# Altium integrated library maix_2.IntLib: 21 symbols
Pins are listed as number, name and electrical type; pins without a type are passive.

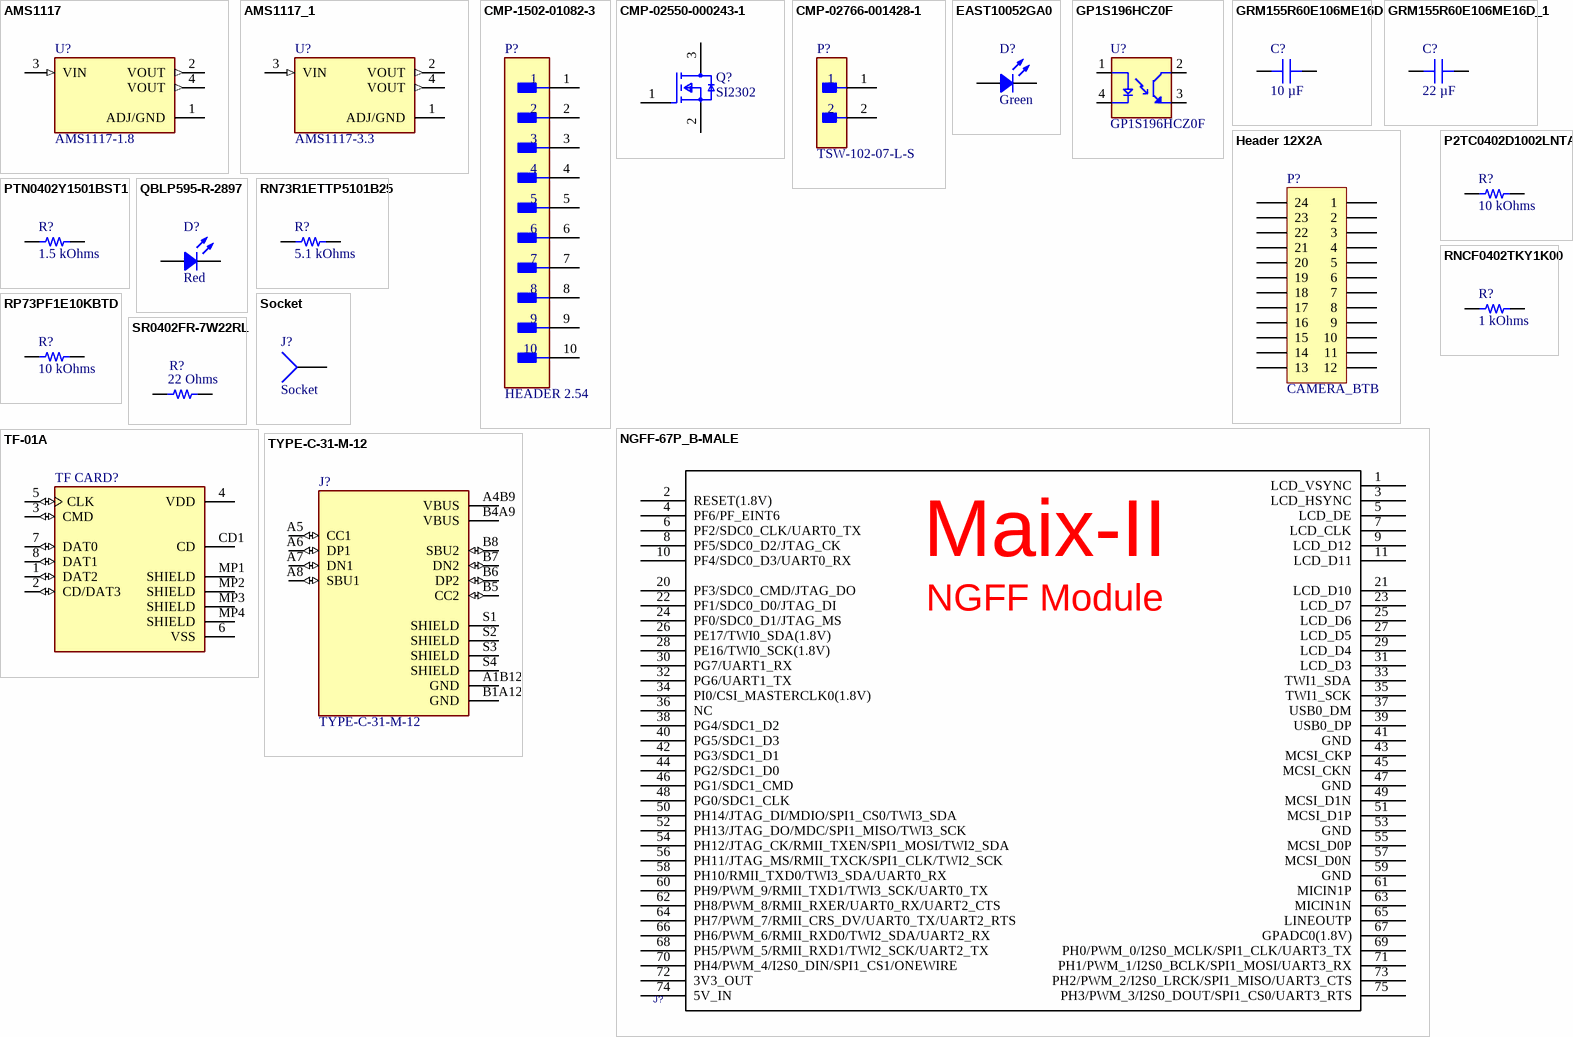
[diagram p0: symbols AMS1117 to TYPE-C-31-M-12]

## AMS1117
designator U?, comment AMS1117-1.8
Sot223/Pkg 1-Amp 5-Volt Low Drop Out Voltage Regulatator; MF: {'manufacturer': u'Advanced Monolithic Systems'}; Availability: Unavailable; Price: None; Value: *; MP: AMS1117; Package: None
footprint SOT229P700X180-4N
pins: 1 ADJ/GND (power), 2 VOUT (out), 3 VIN (in), 4 VOUT (out)

## AMS1117_1
designator U?, comment AMS1117-3.3
Sot223/Pkg 1-Amp 5-Volt Low Drop Out Voltage Regulatator; MF: {'manufacturer': u'Advanced Monolithic Systems'}; Availability: Unavailable; Price: None; Value: *; MP: AMS1117; Package: None
footprint SOT229P700X180-4N
pins: 1 ADJ/GND (power), 2 VOUT (out), 3 VIN (in), 4 VOUT (out)

## CMP-1502-01082-3
designator P?, comment HEADER 2.54
CONN HEADER VERT 10POS 2.54MM; Manufacturer: Wurth Electronics; Manufacturer Part Number: 61301011121; Gender: Male; Insulation Resistance: 1GR; Number of Contacts: 10; Current Rating: 3A; Voltage Rating: 250V; Contact Mating Length: 0.236inch; Termination: Solder; Insulation Material: Nylon; Fastening Type: Pull; RoHS Compliant: Yes; Height: 11.54mm; Contact Plating: Gold; Series: WR-PHD; Length: 2.54mm; Mount: Through Hole; Contact Shape: Square; Package Quantity: 1000; Contact Gender: Male; Housing Material: PBT; Color: Black; Orientation: Straight; Number of Rows: 1; Connector Type: Header; Contact Type: Male Pin; Insulation Color: Black; Width: 25.4mm; Min Operating Temperature: -40°C; Contact Material: Copper Alloy; Number of Positions: 10; Contact Finish - Mating: GOLD; Pitch: 2.54mm; Flammability Rating: UL94 V-0; Max Operating Temperature: 105°C; Packaging: Bulk
footprint FP-61301011121-MFG
pins: 1, 2, 3, 4, 5, 6, 7, 8, 9, 10

## CMP-02550-000243-1
designator Q?, comment SI2302
MOSFET N-CH 20V 2.9A SOT23-3; Manufacturer: Vishay Siliconix; Manufacturer Part Number: SI2302DDS-T1-GE3; Max Power Dissipation: 710mW; Number of Channels: 1; Turn-On Delay Time: 8ns; Rise Time: 7ns; Continuous Drain Current (ID): 2.6A; Drain to Source Resistance: 57mR; Gate to Source Voltage (Vgs): 8V; Turn-Off Delay Time: 30ns; RoHS Compliant: Yes; Drain to Source Voltage (Vdss): 20V; Case/Package: SOT-23; Lead Free: Lead Free; Weight: 0.050717oz; REACH SVHC: No SVHC; Max Operating Temperature: 150°C; Number of Elements: 1; Fall Time: 7ns; Packaging: Tape and Reel; Package Quantity: 3000; Number of Pins: 3; Power Dissipation: 710mW; Mount: Surface Mount; Min Operating Temperature: -55°C
footprint FP-S-03946-IPC_B
footprint FP-S-03946-IPC_C
footprint FP-S-03946-IPC_A
footprint FP-S-03946-MFG
pins: 1 G, 2 S, 3 D

## CMP-02766-001428-1
designator P?, comment TSW-102-07-L-S
CONN HEADER VERT 2POS 2.54MM; Manufacturer: Samtec; Voltage Rating: 550V; Current Rating: 7.6A; Gender: Male; Number of Contacts: 2; Connector Type: Male Pin; Radiation Hardening: No; Orientation: Straight; Contact Plating: Gold; Max Operating Temperature: 125°C; Mount: Through Hole; Package Quantity: 1; Number of Rows: 1; Housing Material: Polyester; RoHS Compliant: Yes; Length: 5.08mm; Max Voltage Rating (AC): 550V; Pitch: 2.54mm; Packaging: Bulk; Depth: 2.54mm; Termination: Solder; Min Operating Temperature: -55°C; Housing Color: Black; Lead Free: Lead Free; Color: Black; Number of Positions: 2; Width: 2.54mm; Max Current Rating: 7.6A; REACH SVHC: No SVHC; Contact Material: Bronze; Contact Mating Length: 0.23inch; Series: TSW; Contact Type: Male Pin; Manufacturer Part Number: TSW-102-07-L-S
footprint FP-TSW-102-07-L-S-MFG
pins: 1, 2

## EAST10052GA0
designator D?, comment Green
LED GREEN CLEAR 2SMD; Part Number: EAST10052GA0; Manufacturer: Everlight Electronics Co Ltd; Configuration: Standard; Current - Test: 5mA; Lens Color: Colorless; Lens Size: 1.00mm x 0.50mm; Lens Style: Rectangle with Flat Top; Viewing Angle: 120°; Voltage - Forward (Vf) (Typ): 2.95V; Wavelength - Peak: 518nm; Color: Green; ComponentLink1Description: Datasheet; ComponentLink1URL: https://everlightamericas.com/index.php?controller=attachment&id_attachment=3256; ComponentLink2Description: DigiKey Link; ComponentLink2URL: https://www.digikey.com/en/products/detail/everlight-electronics-co-ltd/EAST10052GA0/8510366; Device Package: 0402 (1005 Metric); Height (Max): 0.25mm; LastUpdated: 2022/9/14 8:36:15; Lens Transparency: Clear; Lifecycle Status: Active; Minimum Order: 1; Mounting Type: Surface Mount; Package / Case: 0402 (1005 Metric); Packaging: TapeAndReel; PartId: 696; Part Status: Active; Price: 0.06; Series: -; Size / Dimension: 1.00mm L x 0.50mm W; Supplier 1: DigiKey; Supplier Part Number 1: 1080-1557-1-ND; Supplier Device Package: 2-SMD; Value: Green
footprint LED 0402_1005 GREEN
pins: 1, 2

## GP1S196HCZ0F
designator U?
Optical Sensor Through-Beam 0.043 (1.1mm) Phototransistor PCB Mount; MF: Sharp Microelectronics; Availability: Warning; Value: *; Check_prices: https://www.snapeda.com/parts/GP1S196HCZ0F/Sharp%20Microelectronics/view-part/2699849/?ref=eda; Package: PCB Mount Sharp; SnapEDA_Link: https://www.snapeda.com/parts/GP1S196HCZ0F/Sharp%20Microelectronics/view-part/2699849/?ref=snap; Price: None; MP: GP1S196HCZ0F; Purchase-URL: https://pricing.snapeda.com/search/part/GP1S196HCZ0F/?ref=eda
footprint OPTO_GP1S196HCZ0F
footprint SMD-4_L3.1-W2.0-P1.3-BR
pins: 1 A, 2 CT, 3 ET, 4 C

## GRM155R60E106ME16D
designator C?, comment 10 µF
CAP CER 10UF 2.5V X5R 0402; Part Number: GRM155R60E106ME16D; manufacturer: Murata Electronics; Tolerance: ±20%; Value: 10 µF; Applications: General Purpose; Capacitance: 10 µF; componentlink1description: Datasheet; componentlink1url: https://search.murata.co.jp/Ceramy/image/img/A01X/G101/ENG/GRM155R60E106ME16-01.pdf; componentlink2description: DigiKey Link; componentlink2url: https://www.digikey.com/en/products/detail/murata-electronics/GRM155R60E106ME16D/4905100; Device Package: 0402 (1005 Metric); lastupdated: 2022/9/14 7:46:00; Lifecycle Status: Active; Minimum Order: 1; Mounting Type: Surface Mount, MLCC; Operating Temperature: -55°C ~ 85°C; Package / Case: 0402 (1005 Metric); packaging: TapeAndReel; partid: 6704; Part Status: Active; price: 0.02; series: GRM; Size / Dimension: 0.039" L x 0.020" W (1.00mm x 0.50mm); Supplier 1: DigiKey; Supplier Part Number 1: 490-10692-1-ND; Temperature Coefficient: X5R; Thickness (Max): 0.028" (0.70mm); Voltage - Rated: 2.5V
footprint CAP 0402_1005
pins: 1, 2

## GRM155R60E106ME16D_1
designator C?, comment 22 µF
CAP CER 10UF 2.5V X5R 0402; Part Number: GRM155R60E106ME16D; manufacturer: Murata Electronics; Capacitance: 10 µF; Tolerance: ±20%; Value: 22 µF; Applications: General Purpose; componentlink1description: Datasheet; componentlink1url: https://search.murata.co.jp/Ceramy/image/img/A01X/G101/ENG/GRM155R60E106ME16-01.pdf; componentlink2description: DigiKey Link; componentlink2url: https://www.digikey.com/en/products/detail/murata-electronics/GRM155R60E106ME16D/4905100; Device Package: 0402 (1005 Metric); lastupdated: 2022/9/14 7:46:00; Lifecycle Status: Active; Minimum Order: 1; Mounting Type: Surface Mount, MLCC; Operating Temperature: -55°C ~ 85°C; Package / Case: 0402 (1005 Metric); packaging: TapeAndReel; partid: 6704; Part Status: Active; price: 0.02; series: GRM; Size / Dimension: 0.039" L x 0.020" W (1.00mm x 0.50mm); Supplier 1: DigiKey; Supplier Part Number 1: 490-10692-1-ND; Temperature Coefficient: X5R; Thickness (Max): 0.028" (0.70mm); Voltage - Rated: 2.5V
footprint CAP 0402_1005
pins: 1, 2

## Header 12X2A
designator P?, comment CAMERA_BTB
Header, 12-Pin, Dual row; LatestRevisionDate: 17-Jul-2002; LatestRevisionNote: Re-released for DXP Platform.; Publisher: Altium Limited
footprint HDR2X12_CEN (Connector; Header; 12x2 Position)
signal-integrity model Connector
footprint F_24PIN (0.5双槽板对板母座，24P)
pins: 1, 2, 3, 4, 5, 6, 7, 8, 9, 10, 11, 12, 13, 14, 15, 16, 17, 18, 19, 20, 21, 22, 23, 24

## NGFF-67P_B-MALE
designator J?, comment NGFF-67P_B-KEY座子 4.2H高  (value not drawn)  (no BOM)
footprint M2-67P0R50_B_FEMALE (M2-67P0R50_B)
pins: 1 LCD_VSYNC, 2 RESET(1.8V), 3 LCD_HSYNC, 4 PF6/PF_EINT6, 5 LCD_DE, 6 PF2/SDC0_CLK/UART0_TX, 7 LCD_CLK, 8 PF5/SDC0_D2/JTAG_CK, 9 LCD_D12, 10 PF4/SDC0_D3/UART0_RX, 11 LCD_D11, 20 PF3/SDC0_CMD/JTAG_DO, 21 LCD_D10, 22 PF1/SDC0_D0/JTAG_DI, 23 LCD_D7, 24 PF0/SDC0_D1/JTAG_MS, 25 LCD_D6, 26 PE17/TWI0_SDA(1.8V), 27 LCD_D5, 28 PE16/TWI0_SCK(1.8V), 29 LCD_D4, 30 PG7/UART1_RX, 31 LCD_D3, 32 PG6/UART1_TX, 33 TWI1_SDA, 34 PI0/CSI_MASTERCLK0(1.8V), 35 TWI1_SCK, 36 NC, 37 USB0_DM, 38 PG4/SDC1_D2, 39 USB0_DP, 40 PG5/SDC1_D3, 41 GND, 42 PG3/SDC1_D1, 43 MCSI_CKP, 44 PG2/SDC1_D0, 45 MCSI_CKN, 46 PG1/SDC1_CMD, 47 GND, 48 PG0/SDC1_CLK, 49 MCSI_D1N, 50 PH14/JTAG_DI/MDIO/SPI1_CS0/TWI3_SDA, 51 MCSI_D1P, 52 PH13/JTAG_DO/MDC/SPI1_MISO/TWI3_SCK, 53 GND, 54 PH12/JTAG_CK/RMII_TXEN/SPI1_MOSI/TWI2_SDA, 55 MCSI_D0P, 56 PH11/JTAG_MS/RMII_TXCK/SPI1_CLK/TWI2_SCK, 57 MCSI_D0N, 58 PH10/RMII_TXD0/TWI3_SDA/UART0_RX, 59 GND, 60 PH9/PWM_9/RMII_TXD1/TWI3_SCK/UART0_TX, 61 MICIN1P, 62 PH8/PWM_8/RMII_RXER/UART0_RX/UART2_CTS, 63 MICIN1N, 64 PH7/PWM_7/RMII_CRS_DV/UART0_TX/UART2_RTS, 65 LINEOUTP, 66 PH6/PWM_6/RMII_RXD0/TWI2_SDA/UART2_RX, 67 GPADC0(1.8V), 68 PH5/PWM_5/RMII_RXD1/TWI2_SCK/UART2_TX, 69 PH0/PWM_0/I2S0_MCLK/SPI1_CLK/UART3_TX, 70 PH4/PWM_4/I2S0_DIN/SPI1_CS1/ONEWIRE, 71 PH1/PWM_1/I2S0_BCLK/SPI1_MOSI/UART3_RX, 72 3V3_OUT, 73 PH2/PWM_2/I2S0_LRCK/SPI1_MISO/UART3_CTS, 74 5V_IN, 75 PH3/PWM_3/I2S0_DOUT/SPI1_CS0/UART3_RTS
text: Maix-II; NGFF Module

## P2TC0402D1002LNTA
designator R?, comment 10 kOhms
P2TC0402 2PPM/C 10K 0,01% N TA; Part Number: P2TC0402D1002LNTA; Manufacturer: Vishay Sfernice; Power (Watts): 0.063W, 1/16W; Temperature Coefficient: ±2ppm/°C; Tolerance: ±0.01%; Value: 10 kOhms; ComponentLink1Description: Datasheet; ComponentLink1URL: https://www.vishay.com/docs/53080/p2tc.pdf; ComponentLink2Description: DigiKey Link; ComponentLink2URL: https://www.digikey.com/en/products/detail/vishay-sfernice/P2TC0402D1002LNTA/11657715; Composition: Thin Film; Device Package: 0402 (1005 Metric); Features: Anti-Sulfur, Moisture Resistant; Height - Seated (Max): 0.025" (0.63mm); LastUpdated: 2022/9/14 8:01:18; Lifecycle Status: Active; Minimum Order: 1; Number of Terminations: 2; Operating Temperature: -55°C ~ 155°C; Package / Case: 0402 (1005 Metric); Packaging: TapeAndReel; PartId: 59061; Part Status: Active; Price: 13.14; Resistance: 10 kOhms; Series: P2TC; Size / Dimension: 0.039" L x 0.024" W (1.00mm x 0.60mm); Supplier 1: DigiKey; Supplier Part Number 1: 716-P2TC0402D1002LNTACT-ND; Supplier Device Package: 0402
footprint RES 0402_1005
pins: 1, 2

## PTN0402Y1501BST1
designator R?, comment 1.5 kOhms
PTN0402 10PPM 1.5K 0.1% S T1 E1; Part Number: PTN0402Y1501BST1; Manufacturer: Vishay Dale Thin Film; Power (Watts): 0.05W, 1/20W; Temperature Coefficient: ±10ppm/°C; Value: 1.5 kOhms; ComponentLink1Description: Datasheet; ComponentLink1URL: https://www.vishay.com/docs/60026/ptn.pdf; ComponentLink2Description: DigiKey Link; ComponentLink2URL: https://www.digikey.com/en/products/detail/vishay-dale-thin-film/PTN0402Y1501BST1/12820654; Composition: Thin Film; Device Package: 0402 (1005 Metric); Features: Anti-Sulfur, Moisture Resistant, Non-Inductive; Height - Seated (Max): 0.033" (0.84mm); LastUpdated: 2022/9/14 8:01:19; Lifecycle Status: Active; Minimum Order: 1; Number of Terminations: 2; Operating Temperature: -55°C ~ 155°C; Package / Case: 0402 (1005 Metric); Packaging: TapeAndReel; PartId: 59552; Part Status: Active; Price: 0.27; Resistance: 1.5 kOhms; Series: PTN; Size / Dimension: 0.042" L x 0.022" W (1.07mm x 0.56mm); Supplier 1: DigiKey; Supplier Part Number 1: 764-PTN0402Y1501BST1CT-ND; Supplier Device Package: 0402; Tolerance: ±0.1%
footprint RES 0402_1005
pins: 1, 2

## QBLP595-R-2897
designator D?, comment Red
0402 LED RED, CLEAR LENS, 330MCD; Part Number: QBLP595-R-2897; Manufacturer: QT Brightek (QTB); Configuration: Standard; Current - Test: 20mA; Lens Color: Colorless; Lens Size: 0.70mm x 0.50mm; Lens Style: Rectangle with Flat Top; Viewing Angle: 120°; Voltage - Forward (Vf) (Typ): 2.1V; Wavelength - Dominant: 620nm; Color: Red; ComponentLink1Description: Datasheet; ComponentLink1URL: https://www.qt-brightek.com/datasheet/QBLP595-R-2897.pdf; ComponentLink2Description: DigiKey Link; ComponentLink2URL: https://www.digikey.com/en/products/detail/qt-brightek-qtb/QBLP595-R-2897/16499677; Device Package: 0402 (1005 Metric); Height (Max): 0.60mm; LastUpdated: 2022/9/14 8:36:36; Lens Transparency: Clear; Lifecycle Status: Active; Millicandela Rating: 330mcd; Minimum Order: 1; Mounting Type: Surface Mount; Package / Case: 0402 (1005 Metric); Packaging: TapeAndReel; PartId: 1086; Part Status: Active; Price: 0.07; Series: QBLP595; Size / Dimension: 1.00mm L x 0.50mm W; Supplier 1: DigiKey; Supplier Part Number 1: 1516-QBLP595-R-2897CT-ND; Supplier Device Package: 0402; Value: Red
footprint LED 0402_1005 RED
pins: 1, 2

## RN73R1ETTP5101B25
designator R?, comment 5.1 kOhms
RES 5.1K OHM 0.1% 1/16W 0402; Part Number: RN73R1ETTP5101B25; Manufacturer: KOA Speer Electronics, Inc.; Power (Watts): 0.063W, 1/16W; Temperature Coefficient: ±25ppm/°C; Value: 5.1 kOhms; ComponentLink1Description: Datasheet; ComponentLink1URL: //media.digikey.com/pdf/Data%20Sheets/KOA%20Speer/RN73R_Type_DS.pdf; ComponentLink2Description: DigiKey Link; ComponentLink2URL: https://www.digikey.com/en/products/detail/koa-speer-electronics-inc/RN73R1ETTP5101B25/9991854; Composition: Thin Film; Device Package: 0402 (1005 Metric); Features: Automotive AEC-Q200, Moisture Resistant; Height - Seated (Max): 0.016" (0.40mm); LastUpdated: 2022/9/14 8:02:23; Lifecycle Status: Active; Minimum Order: 1; Number of Terminations: 2; Operating Temperature: -55°C ~ 155°C; Package / Case: 0402 (1005 Metric); Packaging: TapeAndReel; PartId: 5343; Part Status: Active; Price: 0.06; Ratings: AEC-Q200; Resistance: 5.1 kOhms; Series: RN73R; Size / Dimension: 0.039" L x 0.020" W (1.00mm x 0.50mm); Supplier 1: DigiKey; Supplier Part Number 1: 2019-RN73R1ETTP5101B25CT-ND; Supplier Device Package: 0402; Tolerance: ±0.1%
footprint RES 0402_1005
pins: 1, 2

## RNCF0402TKY1K00
designator R?, comment 1 kOhms
RES 1K OHM 0.01% 1/16W 0402; Part Number: RNCF0402TKY1K00; Manufacturer: Stackpole Electronics Inc; Power (Watts): 0.063W, 1/16W; Temperature Coefficient: ±5ppm/°C; Value: 1 kOhms; ComponentLink1Description: Datasheet; ComponentLink1URL: https://www.seielect.com/catalog/sei-rncf.pdf; ComponentLink2Description: DigiKey Link; ComponentLink2URL: https://www.digikey.com/en/products/detail/stackpole-electronics-inc/RNCF0402TKY1K00/5432231; Composition: Thin Film; Device Package: 0402 (1005 Metric); Features: Automotive AEC-Q200; Height - Seated (Max): 0.014" (0.35mm); LastUpdated: 2022/9/14 8:01:36; Lifecycle Status: Active; Minimum Order: 1; Number of Terminations: 2; Operating Temperature: -55°C ~ 155°C; Package / Case: 0402 (1005 Metric); Packaging: TapeAndReel; PartId: 20099; Part Status: Active; Price: 0.88; Ratings: AEC-Q200; Resistance: 1 kOhms; Series: RNCF; Size / Dimension: 0.039" L x 0.020" W (1.00mm x 0.50mm); Supplier 1: DigiKey; Supplier Part Number 1: RNCF0402TKY1K00CT-ND; Supplier Device Package: 0402; Tolerance: ±0.01%
footprint RES 0402_1005
pins: 1, 2

## RP73PF1E10KBTD
designator R?, comment 10 kOhms
RES 10K OHM 0.1% 1/10W 0402; Part Number: RP73PF1E10KBTD; Manufacturer: TE Connectivity Passive Product; Power (Watts): 0.1W, 1/10W; Temperature Coefficient: ±25ppm/°C; Value: 10 kOhms; ComponentLink1Description: Datasheet; ComponentLink1URL: https://www.te.com/commerce/DocumentDelivery/DDEController?Action=srchrtrv&DocNm=1773272&DocType=DS&DocLang=English; ComponentLink2Description: DigiKey Link; ComponentLink2URL: https://www.digikey.com/en/products/detail/te-connectivity-passive-product/RP73PF1E10KBTD/8260957; Composition: Thin Film; Device Package: 0402 (1005 Metric); Height - Seated (Max): 0.014" (0.35mm); LastUpdated: 2022/9/14 8:02:33; Lifecycle Status: Active; Minimum Order: 1; Number of Terminations: 2; Operating Temperature: -55°C ~ 155°C; Package / Case: 0402 (1005 Metric); Packaging: TapeAndReel; PartId: 2434; Part Status: Active; Price: 0.09; Resistance: 10 kOhms; Series: RP73, Holsworthy; Size / Dimension: 0.039" L x 0.020" W (1.00mm x 0.50mm); Supplier 1: DigiKey; Supplier Part Number 1: A127415CT-ND; Supplier Device Package: 0402; Tolerance: ±0.1%
footprint RES 0402_1005
pins: 1, 2

## Socket
designator J?
LatestRevisionDate: 17-Jul-2002; LatestRevisionNote: Re-released for DXP Platform.; Publisher: Altium Limited
footprint PIN1 (Connector; Socket)
signal-integrity model Connector
footprint M.2 SMT-FEMALE - FULL (Connector; Plug)
pins: 1

## SR0402FR-7W22RL
designator R?, comment 22 Ohms
RES 22 OHM 1% 1/8W 0402; Part Number: SR0402FR-7W22RL; Manufacturer: Yageo; Power (Watts): 0.125W, 1/8W; Temperature Coefficient: ±100ppm/°C; Value: 22 Ohms; ComponentLink1Description: Datasheet; ComponentLink1URL: http://www.yageo.com/documents/recent/PYu-SR_D_F%20tol_RoHS_L_4.pdf; ComponentLink2Description: DigiKey Link; ComponentLink2URL: https://www.digikey.com/en/products/detail/yageo/SR0402FR-7W22RL/9373094; Composition: Thick Film; Device Package: 0402 (1005 Metric); Features: Automotive AEC-Q200, Pulse Withstanding; Height - Seated (Max): 0.016" (0.40mm); LastUpdated: 2022/9/14 8:02:27; Lifecycle Status: Active; Minimum Order: 1; Number of Terminations: 2; Operating Temperature: -55°C ~ 155°C; Package / Case: 0402 (1005 Metric); Packaging: TapeAndReel; PartId: 4390; Part Status: Active; Price: 0.07; Ratings: AEC-Q200; Resistance: 22 Ohms; Series: SR; Size / Dimension: 0.039" L x 0.020" W (1.00mm x 0.50mm); Supplier 1: DigiKey; Supplier Part Number 1: YAG5820CT-ND; Supplier Device Package: 0402; Tolerance: ±1%
footprint RES 0402_1005
pins: 1, 2

## TF-01A
designator TF CARD?  (value not drawn)
<b>Connector - Card Sockets 8 1.1mm SMD RoHS</b><p> Source: <a href="https://datasheet.lcsc.com/szlcsc/1903221101_Korean-Hroparts-Elec-TF-01A_C91145.pdf"> Datasheet </a>; MF: {'manufacturer': u'HRO Electronics Co., Ltd.'}; Availability: Unavailable; MP: TF-01A; Price: None; Package: None; Value: *
footprint TF-01A
footprint TF-01A
footprint TF-01A
pins: 1 DAT2 (io), 2 CD/DAT3 (io), 3 CMD (io), 4 VDD (power), 5 CLK (io), 6 VSS (power), 7 DAT0 (io), 8 DAT1 (io), CD1 CD, MP1 SHIELD (power), MP2 SHIELD (power), MP3 SHIELD (power), MP4 SHIELD (power)

## TYPE-C-31-M-12
designator J?
USB Connectors 24 Receptacle 1 8.94*7.3mm RoHS; MF: {'manufacturer': u'HRO Electronics Co., Ltd.'}; MP: TYPE-C-31-M-12; Availability: Unavailable; Price: None; Value: *; Package: None
footprint HRO_TYPE-C-31-M-12
pins: A1B12 GND (power), A4B9 VBUS (power), A5 CC1 (io), A6 DP1 (io), A7 DN1 (io), A8 SBU1 (io), B1A12 GND (power), B4A9 VBUS (power), B5 CC2 (io), B6 DP2 (io), B7 DN2 (io), B8 SBU2 (io), S1 SHIELD, S2 SHIELD, S3 SHIELD, S4 SHIELD